# Altium schematic symbol library 4952.SchLib: 1 symbol
Pins are listed as number, name and electrical type; pins without a type are passive.

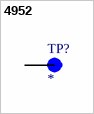
[diagram p0: symbol 4952]

## 4952
designator TP?
MF: {'manufacturer': u'Keystone Electronics'}; MP: 4952; Package: None; Price: None; Value: *; Availability: Unavailable
footprint KEYSTONE_4952
pins: TP